# Altium footprint library Connector_FFC-FPC.PcbLib: 372 footprints (part 16 of 24)
Each footprint in its own frame and in the unit in brackets; x right, y up, seen from the top. Pads: shape width x height; smd on the part's side, far side on the other; paste and mask are expansions set on the pad; w line width, h text height; cw(c..) or ccw(c..) is an arc to the next point about the centre after c.
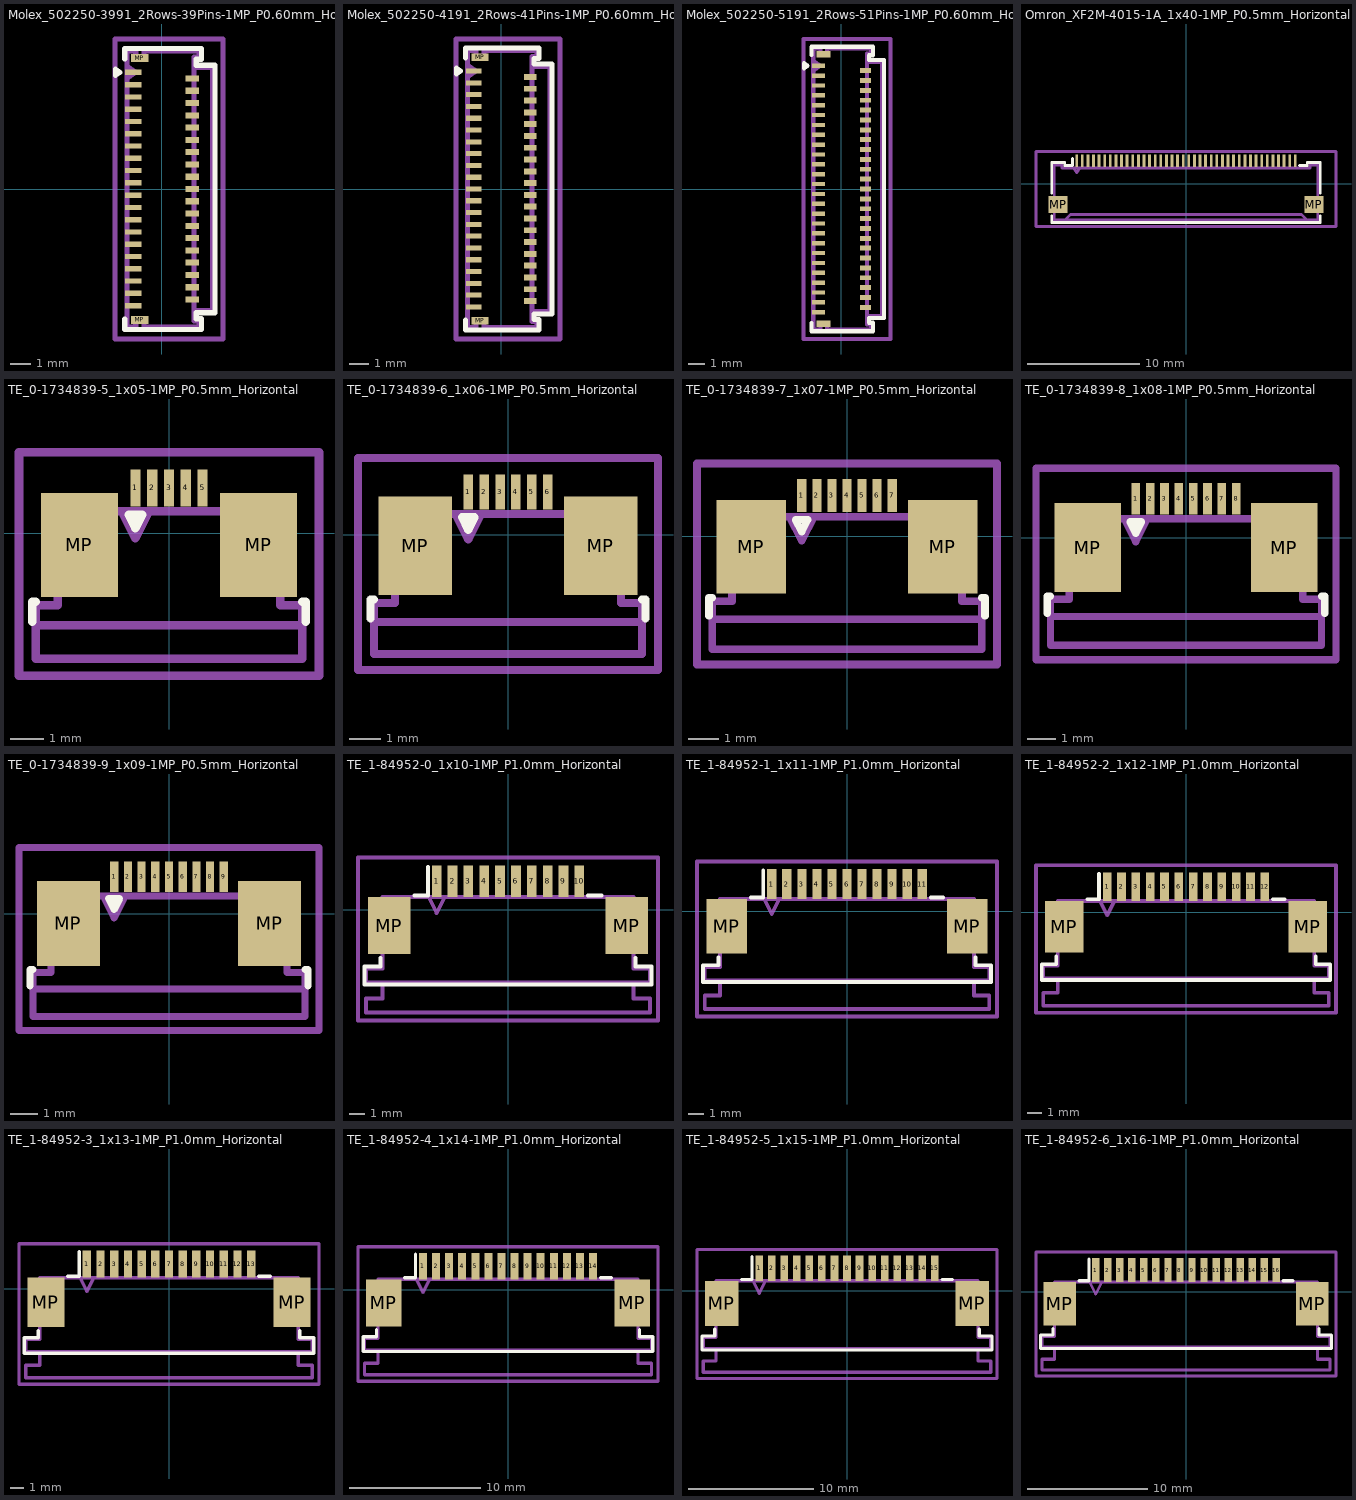
[diagram p15: the footprints below, top view; thin cyan lines are the x and y axes]

## Molex_502250-3991_2Rows-39Pins-1MP_P0.60mm_Horizontal [mm]
pads (41):
  rect 0.8x0.26 smd: 1(-1.4,5.7) 3(-1.4,5.1) 5(-1.4,4.5) 7(-1.4,3.9) 9(-1.4,3.3) 11(-1.4,2.7) 13(-1.4,2.1) 15(-1.4,1.5) 17(-1.4,0.9) 19(-1.4,0.3) 21(-1.4,-0.3) 23(-1.4,-0.9) 25(-1.4,-1.5) 27(-1.4,-2.1) 29(-1.4,-2.7) 31(-1.4,-3.3) 33(-1.4,-3.9) 35(-1.4,-4.5) 37(-1.4,-5.1) 39(-1.4,-5.7)
  rect 0.65x0.3 smd: 2(1.475,5.4) 4(1.475,4.8) 6(1.475,4.2) 8(1.475,3.6) 10(1.475,3) 12(1.475,2.4) 14(1.475,1.8) 16(1.475,1.2) 18(1.475,0.6) 20(1.475,0) 22(1.475,-0.6) 24(1.475,-1.2) 26(1.475,-1.8) 28(1.475,-2.4) 30(1.475,-3) 32(1.475,-3.6) 34(1.475,-4.2) 36(1.475,-4.8) 38(1.475,-5.4)
  rect 0.85x0.4 smd: MP(-1.075,-6.4) MP(-1.075,6.4)
F.SilkS:
  lines w0.254: -1.82,-6.36 -1.82,-6.86 1.93,-6.86 1.93,-6.34 1.68,-6.34 1.68,-6.05 2.59,-6.05 2.59,0 2.59,6.05 1.68,6.05 1.68,6.34 1.93,6.34 1.93,6.86 -1.82,6.86 -1.82,6.36 ; -2.272,5.55 -2.06,5.7 -2.272,5.85 -2.272,5.55
Top Assembly:
  lines w0.254: -1.71,5.4 -1.286,5.7 -1.71,6 ; 1.57,-5.94 2.48,-5.94 2.48,5.94 1.57,5.94 ; -1.71,-6.75 -1.275,-6.75 -1.275,-6.45 -0.875,-6.45 -0.875,-6.75 1.82,-6.75 1.82,-6.45 1.57,-6.45 1.57,0 1.57,6.45 1.82,6.45 1.82,6.75 -0.875,6.75 -0.875,6.45 -1.275,6.45 -1.275,6.75 -1.71,6.75 -1.71,0 -1.71,-6.75
  text "'.Designator'" at 1.646,-3.315 h0.82
Top Courtyard:
  lines w0.254: -2.3,-7.33 2.99,-7.33 2.99,7.33 -2.3,7.33 -2.3,-7.33
Top Designator:
  text ".Designator" at -7.273,-0.508 h1.52

## Molex_502250-4191_2Rows-41Pins-1MP_P0.60mm_Horizontal [mm]
pads (43):
  rect 0.8x0.26 smd: 1(-1.4,6) 3(-1.4,5.4) 5(-1.4,4.8) 7(-1.4,4.2) 9(-1.4,3.6) 11(-1.4,3) 13(-1.4,2.4) 15(-1.4,1.8) 17(-1.4,1.2) 19(-1.4,0.6) 21(-1.4,0) 23(-1.4,-0.6) 25(-1.4,-1.2) 27(-1.4,-1.8) 29(-1.4,-2.4) 31(-1.4,-3) 33(-1.4,-3.6) 35(-1.4,-4.2) 37(-1.4,-4.8) 39(-1.4,-5.4) 41(-1.4,-6)
  rect 0.65x0.3 smd: 2(1.475,5.7) 4(1.475,5.1) 6(1.475,4.5) 8(1.475,3.9) 10(1.475,3.3) 12(1.475,2.7) 14(1.475,2.1) 16(1.475,1.5) 18(1.475,0.9) 20(1.475,0.3) 22(1.475,-0.3) 24(1.475,-0.9) 26(1.475,-1.5) 28(1.475,-2.1) 30(1.475,-2.7) 32(1.475,-3.3) 34(1.475,-3.9) 36(1.475,-4.5) 38(1.475,-5.1) 40(1.475,-5.7)
  rect 0.85x0.4 smd: MP(-1.075,-6.7) MP(-1.075,6.7)
F.SilkS:
  lines w0.254: -1.82,-6.66 -1.82,-7.16 1.93,-7.16 1.93,-6.64 1.68,-6.64 1.68,-6.35 2.59,-6.35 2.59,0 2.59,6.35 1.68,6.35 1.68,6.64 1.93,6.64 1.93,7.16 -1.82,7.16 -1.82,6.66 ; -2.272,5.85 -2.06,6 -2.272,6.15 -2.272,5.85
Top Assembly:
  lines w0.254: -1.71,5.7 -1.286,6 -1.71,6.3 ; 1.57,-6.24 2.48,-6.24 2.48,6.24 1.57,6.24 ; -1.71,-7.05 -1.275,-7.05 -1.275,-6.75 -0.875,-6.75 -0.875,-7.05 1.82,-7.05 1.82,-6.75 1.57,-6.75 1.57,0 1.57,6.75 1.82,6.75 1.82,7.05 -0.875,7.05 -0.875,6.75 -1.275,6.75 -1.275,7.05 -1.71,7.05 -1.71,0 -1.71,-7.05
  text "'.Designator'" at 1.646,-3.315 h0.82
Top Courtyard:
  lines w0.254: -2.3,-7.63 2.99,-7.63 2.99,7.63 -2.3,7.63 -2.3,-7.63
Top Designator:
  text ".Designator" at -7.273,-0.508 h1.52

## Molex_502250-5191_2Rows-51Pins-1MP_P0.60mm_Horizontal [mm]
pads (53):
  rect 0.8x0.26 smd: 1(-1.4,7.5) 3(-1.4,6.9) 5(-1.4,6.3) 7(-1.4,5.7) 9(-1.4,5.1) 11(-1.4,4.5) 13(-1.4,3.9) 15(-1.4,3.3) 17(-1.4,2.7) 19(-1.4,2.1) 21(-1.4,1.5) 23(-1.4,0.9) 25(-1.4,0.3) 27(-1.4,-0.3) 29(-1.4,-0.9) 31(-1.4,-1.5) 33(-1.4,-2.1) 35(-1.4,-2.7) 37(-1.4,-3.3) 39(-1.4,-3.9) 41(-1.4,-4.5) 43(-1.4,-5.1) 45(-1.4,-5.7) 47(-1.4,-6.3) 49(-1.4,-6.9) 51(-1.4,-7.5)
  rect 0.65x0.3 smd: 2(1.475,7.2) 4(1.475,6.6) 6(1.475,6) 8(1.475,5.4) 10(1.475,4.8) 12(1.475,4.2) 14(1.475,3.6) 16(1.475,3) 18(1.475,2.4) 20(1.475,1.8) 22(1.475,1.2) 24(1.475,0.6) 26(1.475,0) 28(1.475,-0.6) 30(1.475,-1.2) 32(1.475,-1.8) 34(1.475,-2.4) 36(1.475,-3) 38(1.475,-3.6) 40(1.475,-4.2) 42(1.475,-4.8) 44(1.475,-5.4) 46(1.475,-6) 48(1.475,-6.6) 50(1.475,-7.2)
  rect 0.85x0.4 smd: MP(-1.075,-8.2) MP(-1.075,8.2)
F.SilkS:
  lines w0.254: -1.82,-8.16 -1.82,-8.66 1.93,-8.66 1.93,-8.14 1.68,-8.14 1.68,-7.85 2.59,-7.85 2.59,0 2.59,7.85 1.68,7.85 1.68,8.14 1.93,8.14 1.93,8.66 -1.82,8.66 -1.82,8.16 ; -2.272,7.35 -2.06,7.5 -2.272,7.65 -2.272,7.35
Top Assembly:
  lines w0.254: -1.71,7.2 -1.286,7.5 -1.71,7.8 ; 1.57,-7.74 2.48,-7.74 2.48,7.74 1.57,7.74 ; -1.71,-8.55 -1.275,-8.55 -1.275,-8.25 -0.875,-8.25 -0.875,-8.55 1.82,-8.55 1.82,-8.25 1.57,-8.25 1.57,0 1.57,8.25 1.82,8.25 1.82,8.55 -0.875,8.55 -0.875,8.25 -1.275,8.25 -1.275,8.55 -1.71,8.55 -1.71,0 -1.71,-8.55
  text "'.Designator'" at 1.646,-3.315 h0.82
Top Courtyard:
  lines w0.254: -2.3,-9.13 2.99,-9.13 2.99,9.13 -2.3,9.13 -2.3,-9.13
Top Designator:
  text ".Designator" at -7.273,-0.508 h1.52

## Omron_XF2M-4015-1A_1x40-1MP_P0.5mm_Horizontal [mm]
pads (42):
  rect 0.25x1.1 smd: 1(-9.75,2.05) 2(-9.25,2.05) 3(-8.75,2.05) 4(-8.25,2.05) 5(-7.75,2.05) 6(-7.25,2.05) 7(-6.75,2.05) 8(-6.25,2.05) 9(-5.75,2.05) 10(-5.25,2.05) 11(-4.75,2.05) 12(-4.25,2.05) 13(-3.75,2.05) 14(-3.25,2.05) 15(-2.75,2.05) 16(-2.25,2.05) 17(-1.75,2.05) 18(-1.25,2.05) 19(-0.75,2.05) 20(-0.25,2.05) 21(0.25,2.05) 22(0.75,2.05) 23(1.25,2.05) 24(1.75,2.05) 25(2.25,2.05) 26(2.75,2.05) 27(3.25,2.05) 28(3.75,2.05) 29(4.25,2.05) 30(4.75,2.05) 31(5.25,2.05) 32(5.75,2.05) 33(6.25,2.05) 34(6.75,2.05) 35(7.25,2.05) 36(7.75,2.05) 37(8.25,2.05) 38(8.75,2.05) 39(9.25,2.05) 40(9.75,2.05)
  rect 1.7x1.5 smd: MP(-11.4,-1.85) MP(11.4,-1.85)
F.SilkS:
  lines w0.254: -11.98,-2.86 -11.98,-3.455 11.98,-3.455 11.98,-2.86 ; -11.98,-0.84 -11.98,1.905 -10.82,1.905 -10.82,1.645 -10.135,1.645 -10.135,2.25 ; 10.135,1.645 10.82,1.645 10.82,1.905 11.98,1.905 11.98,-0.84
Top Assembly:
  lines w0.254: -10.8,-3.225 -10.3,-2.725 10.3,-2.725 10.8,-3.225 ; -10,1.4 -9.75,1 -9.5,1.415 ; -11.75,-3.225 11.75,-3.225 11.75,1.675 11.05,1.675 11.05,1.415 -11.05,1.415 -11.05,1.675 -11.75,1.675 -11.75,-3.225
  text "'.Designator'" at -4.047,-2.84 h1
Top Courtyard:
  lines w0.254: -13.38,-3.8 13.38,-3.8 13.38,2.88 -13.38,2.88 -13.38,-3.8
Top Designator:
  text ".Designator" at -7.618,-0.968 h1.52

## TE_0-1734839-5_1x05-1MP_P0.5mm_Horizontal [mm]
pads (7):
  rect 0.3x1.1 smd: 1(-1,1.35) 2(-0.5,1.35) 3(0,1.35) 4(0.5,1.35) 5(1,1.35)
  rect 2.3x3.1 smd: MP(-2.67,-0.35) MP(2.67,-0.35)
F.SilkS:
  lines w0.254: -4.075,-2.64 -4.075,-2.04 -3.965,-2.04 ; 3.965,-2.04 4.075,-2.04 4.075,-2.64 ; -1.2,0.55 -0.8,0.55 -1,0.15 -1.2,0.55
Top Assembly:
  lines w0.254: -1.4,0.65 -1,-0.15 -0.6,0.65 ; -3.965,-3.75 3.965,-3.75 3.965,-2.15 3.31,-2.15 3.31,0.65 -3.31,0.65 -3.31,-2.15 -3.965,-2.15 -3.965,-3.75
  text "'.Designator'" at -4.047,-2.39 h1
Top Courtyard:
  lines w0.254: -4.47,-4.25 4.47,-4.25 4.47,2.41 -4.47,2.41 -4.47,-4.25
Top Designator:
  text ".Designator" at -7.618,-1.428 h1.52
Dwgs.User:
  lines w0.254: -3.855,-2.75 3.855,-2.75
  text "PCB Edge" at -1.728,-3.663 h0.5

## TE_0-1734839-6_1x06-1MP_P0.5mm_Horizontal [mm]
pads (8):
  rect 0.3x1.1 smd: 1(-1.25,1.35) 2(-0.75,1.35) 3(-0.25,1.35) 4(0.25,1.35) 5(0.75,1.35) 6(1.25,1.35)
  rect 2.3x3.1 smd: MP(-2.92,-0.35) MP(2.92,-0.35)
F.SilkS:
  lines w0.254: -4.325,-2.64 -4.325,-2.04 -4.215,-2.04 ; 4.215,-2.04 4.325,-2.04 4.325,-2.64 ; -1.45,0.55 -1.05,0.55 -1.25,0.15 -1.45,0.55
Top Assembly:
  lines w0.254: -1.65,0.65 -1.25,-0.15 -0.85,0.65 ; -4.215,-3.75 4.215,-3.75 4.215,-2.15 3.56,-2.15 3.56,0.65 -3.56,0.65 -3.56,-2.15 -4.215,-2.15 -4.215,-3.75
  text "'.Designator'" at -4.047,-2.39 h1
Top Courtyard:
  lines w0.254: -4.72,-4.25 4.72,-4.25 4.72,2.41 -4.72,2.41 -4.72,-4.25
Top Designator:
  text ".Designator" at -7.618,-1.428 h1.52
Dwgs.User:
  lines w0.254: -4.105,-2.75 4.105,-2.75
  text "PCB Edge" at -1.728,-3.663 h0.5

## TE_0-1734839-7_1x07-1MP_P0.5mm_Horizontal [mm]
pads (9):
  rect 0.3x1.1 smd: 1(-1.5,1.35) 2(-1,1.35) 3(-0.5,1.35) 4(0,1.35) 5(0.5,1.35) 6(1,1.35) 7(1.5,1.35)
  rect 2.3x3.1 smd: MP(-3.17,-0.35) MP(3.17,-0.35)
F.SilkS:
  lines w0.254: -4.575,-2.64 -4.575,-2.04 -4.465,-2.04 ; 4.465,-2.04 4.575,-2.04 4.575,-2.64 ; -1.7,0.55 -1.3,0.55 -1.5,0.15 -1.7,0.55
Top Assembly:
  lines w0.254: -1.9,0.65 -1.5,-0.15 -1.1,0.65 ; -4.465,-3.75 4.465,-3.75 4.465,-2.15 3.81,-2.15 3.81,0.65 -3.81,0.65 -3.81,-2.15 -4.465,-2.15 -4.465,-3.75
  text "'.Designator'" at -4.047,-2.39 h1
Top Courtyard:
  lines w0.254: -4.97,-4.25 4.97,-4.25 4.97,2.41 -4.97,2.41 -4.97,-4.25
Top Designator:
  text ".Designator" at -7.618,-1.428 h1.52
Dwgs.User:
  lines w0.254: -4.355,-2.75 4.355,-2.75
  text "PCB Edge" at -1.728,-3.663 h0.5

## TE_0-1734839-8_1x08-1MP_P0.5mm_Horizontal [mm]
pads (10):
  rect 0.3x1.1 smd: 1(-1.75,1.35) 2(-1.25,1.35) 3(-0.75,1.35) 4(-0.25,1.35) 5(0.25,1.35) 6(0.75,1.35) 7(1.25,1.35) 8(1.75,1.35)
  rect 2.3x3.1 smd: MP(-3.42,-0.35) MP(3.42,-0.35)
F.SilkS:
  lines w0.254: -4.825,-2.64 -4.825,-2.04 -4.715,-2.04 ; 4.715,-2.04 4.825,-2.04 4.825,-2.64 ; -1.95,0.55 -1.55,0.55 -1.75,0.15 -1.95,0.55
Top Assembly:
  lines w0.254: -2.15,0.65 -1.75,-0.15 -1.35,0.65 ; -4.715,-3.75 4.715,-3.75 4.715,-2.15 4.06,-2.15 4.06,0.65 -4.06,0.65 -4.06,-2.15 -4.715,-2.15 -4.715,-3.75
  text "'.Designator'" at -4.047,-2.39 h1
Top Courtyard:
  lines w0.254: -5.22,-4.25 5.22,-4.25 5.22,2.41 -5.22,2.41 -5.22,-4.25
Top Designator:
  text ".Designator" at -7.618,-1.428 h1.52
Dwgs.User:
  lines w0.254: -4.605,-2.75 4.605,-2.75
  text "PCB Edge" at -1.728,-3.663 h0.5

## TE_0-1734839-9_1x09-1MP_P0.5mm_Horizontal [mm]
pads (11):
  rect 0.3x1.1 smd: 1(-2,1.35) 2(-1.5,1.35) 3(-1,1.35) 4(-0.5,1.35) 5(0,1.35) 6(0.5,1.35) 7(1,1.35) 8(1.5,1.35) 9(2,1.35)
  rect 2.3x3.1 smd: MP(-3.67,-0.35) MP(3.67,-0.35)
F.SilkS:
  lines w0.254: -5.075,-2.64 -5.075,-2.04 -4.965,-2.04 ; 4.965,-2.04 5.075,-2.04 5.075,-2.64 ; -2.2,0.55 -1.8,0.55 -2,0.15 -2.2,0.55
Top Assembly:
  lines w0.254: -2.4,0.65 -2,-0.15 -1.6,0.65 ; -4.965,-3.75 4.965,-3.75 4.965,-2.15 4.31,-2.15 4.31,0.65 -4.31,0.65 -4.31,-2.15 -4.965,-2.15 -4.965,-3.75
  text "'.Designator'" at -4.047,-2.39 h1
Top Courtyard:
  lines w0.254: -5.47,-4.25 5.47,-4.25 5.47,2.41 -5.47,2.41 -5.47,-4.25
Top Designator:
  text ".Designator" at -7.618,-1.428 h1.52
Dwgs.User:
  lines w0.254: -4.855,-2.75 4.855,-2.75
  text "PCB Edge" at -1.728,-3.663 h0.5

## TE_1-84952-0_1x10-1MP_P1.0mm_Horizontal [mm]
pads (12):
  rect 0.61x2 smd: 1(-4.5,1.8) 2(-3.5,1.8) 3(-2.5,1.8) 4(-1.5,1.8) 5(-0.5,1.8) 6(0.5,1.8) 7(1.5,1.8) 8(2.5,1.8) 9(3.5,1.8) 10(4.5,1.8)
  rect 2.68x3.6 smd: MP(-7.49,-1) MP(7.49,-1)
F.SilkS:
  lines w0.254: -8.045,-3.06 -8.045,-3.6 -9.07,-3.6 -9.07,-4.71 9.07,-4.71 9.07,-3.6 8.045,-3.6 8.045,-3.06 ; -5.89,0.91 -5.065,0.91 -5.065,2.71 ; 5.065,0.91 5.89,0.91
Top Assembly:
  lines w0.254: -7.935,-4.6 -7.935,-5.61 -8.96,-5.61 -8.96,-6.5 8.96,-6.5 8.96,-5.61 7.935,-5.61 7.935,-4.6 ; -5,0.8 -4.5,-0.2 -4,0.8 ; -8.96,-4.6 8.96,-4.6 8.96,-3.71 7.935,-3.71 7.935,0.8 -7.935,0.8 -7.935,-3.71 -8.96,-3.71 -8.96,-4.6
  text "'.Designator'" at -4.047,-2.74 h1
Top Courtyard:
  lines w0.254: -9.47,-7 9.47,-7 9.47,3.3 -9.47,3.3 -9.47,-7
Top Designator:
  text ".Designator" at -7.618,-2.358 h1.52

## TE_1-84952-1_1x11-1MP_P1.0mm_Horizontal [mm]
pads (13):
  rect 0.61x2 smd: 1(-5,1.8) 2(-4,1.8) 3(-3,1.8) 4(-2,1.8) 5(-1,1.8) 6(0,1.8) 7(1,1.8) 8(2,1.8) 9(3,1.8) 10(4,1.8) 11(5,1.8)
  rect 2.68x3.6 smd: MP(-7.99,-1) MP(7.99,-1)
F.SilkS:
  lines w0.254: -8.545,-3.06 -8.545,-3.6 -9.57,-3.6 -9.57,-4.71 9.57,-4.71 9.57,-3.6 8.545,-3.6 8.545,-3.06 ; -6.39,0.91 -5.565,0.91 -5.565,2.71 ; 5.565,0.91 6.39,0.91
Top Assembly:
  lines w0.254: -8.435,-4.6 -8.435,-5.61 -9.46,-5.61 -9.46,-6.5 9.46,-6.5 9.46,-5.61 8.435,-5.61 8.435,-4.6 ; -5.5,0.8 -5,-0.2 -4.5,0.8 ; -9.46,-4.6 9.46,-4.6 9.46,-3.71 8.435,-3.71 8.435,0.8 -8.435,0.8 -8.435,-3.71 -9.46,-3.71 -9.46,-4.6
  text "'.Designator'" at -4.047,-2.74 h1
Top Courtyard:
  lines w0.254: -9.97,-7 9.97,-7 9.97,3.3 -9.97,3.3 -9.97,-7
Top Designator:
  text ".Designator" at -7.618,-2.358 h1.52

## TE_1-84952-2_1x12-1MP_P1.0mm_Horizontal [mm]
pads (14):
  rect 0.61x2 smd: 1(-5.5,1.8) 2(-4.5,1.8) 3(-3.5,1.8) 4(-2.5,1.8) 5(-1.5,1.8) 6(-0.5,1.8) 7(0.5,1.8) 8(1.5,1.8) 9(2.5,1.8) 10(3.5,1.8) 11(4.5,1.8) 12(5.5,1.8)
  rect 2.68x3.6 smd: MP(-8.49,-1) MP(8.49,-1)
F.SilkS:
  lines w0.254: -9.045,-3.06 -9.045,-3.6 -10.07,-3.6 -10.07,-4.71 10.07,-4.71 10.07,-3.6 9.045,-3.6 9.045,-3.06 ; -6.89,0.91 -6.065,0.91 -6.065,2.71 ; 6.065,0.91 6.89,0.91
Top Assembly:
  lines w0.254: -8.935,-4.6 -8.935,-5.61 -9.96,-5.61 -9.96,-6.5 9.96,-6.5 9.96,-5.61 8.935,-5.61 8.935,-4.6 ; -6,0.8 -5.5,-0.2 -5,0.8 ; -9.96,-4.6 9.96,-4.6 9.96,-3.71 8.935,-3.71 8.935,0.8 -8.935,0.8 -8.935,-3.71 -9.96,-3.71 -9.96,-4.6
  text "'.Designator'" at -4.047,-2.74 h1
Top Courtyard:
  lines w0.254: -10.46,-7 10.46,-7 10.46,3.3 -10.46,3.3 -10.46,-7
Top Designator:
  text ".Designator" at -7.618,-2.358 h1.52

## TE_1-84952-3_1x13-1MP_P1.0mm_Horizontal [mm]
pads (15):
  rect 0.61x2 smd: 1(-6,1.8) 2(-5,1.8) 3(-4,1.8) 4(-3,1.8) 5(-2,1.8) 6(-1,1.8) 7(0,1.8) 8(1,1.8) 9(2,1.8) 10(3,1.8) 11(4,1.8) 12(5,1.8) 13(6,1.8)
  rect 2.68x3.6 smd: MP(-8.99,-1) MP(8.99,-1)
F.SilkS:
  lines w0.254: -9.545,-3.06 -9.545,-3.6 -10.57,-3.6 -10.57,-4.71 10.57,-4.71 10.57,-3.6 9.545,-3.6 9.545,-3.06 ; -7.39,0.91 -6.565,0.91 -6.565,2.71 ; 6.565,0.91 7.39,0.91
Top Assembly:
  lines w0.254: -9.435,-4.6 -9.435,-5.61 -10.46,-5.61 -10.46,-6.5 10.46,-6.5 10.46,-5.61 9.435,-5.61 9.435,-4.6 ; -6.5,0.8 -6,-0.2 -5.5,0.8 ; -10.46,-4.6 10.46,-4.6 10.46,-3.71 9.435,-3.71 9.435,0.8 -9.435,0.8 -9.435,-3.71 -10.46,-3.71 -10.46,-4.6
  text "'.Designator'" at -4.047,-2.74 h1
Top Courtyard:
  lines w0.254: -10.96,-7 10.96,-7 10.96,3.3 -10.96,3.3 -10.96,-7
Top Designator:
  text ".Designator" at -7.618,-2.358 h1.52

## TE_1-84952-4_1x14-1MP_P1.0mm_Horizontal [mm]
pads (16):
  rect 0.61x2 smd: 1(-6.5,1.8) 2(-5.5,1.8) 3(-4.5,1.8) 4(-3.5,1.8) 5(-2.5,1.8) 6(-1.5,1.8) 7(-0.5,1.8) 8(0.5,1.8) 9(1.5,1.8) 10(2.5,1.8) 11(3.5,1.8) 12(4.5,1.8) 13(5.5,1.8) 14(6.5,1.8)
  rect 2.68x3.6 smd: MP(-9.49,-1) MP(9.49,-1)
F.SilkS:
  lines w0.254: -10.045,-3.06 -10.045,-3.6 -11.07,-3.6 -11.07,-4.71 11.07,-4.71 11.07,-3.6 10.045,-3.6 10.045,-3.06 ; -7.89,0.91 -7.065,0.91 -7.065,2.71 ; 7.065,0.91 7.89,0.91
Top Assembly:
  lines w0.254: -9.935,-4.6 -9.935,-5.61 -10.96,-5.61 -10.96,-6.5 10.96,-6.5 10.96,-5.61 9.935,-5.61 9.935,-4.6 ; -7,0.8 -6.5,-0.2 -6,0.8 ; -10.96,-4.6 10.96,-4.6 10.96,-3.71 9.935,-3.71 9.935,0.8 -9.935,0.8 -9.935,-3.71 -10.96,-3.71 -10.96,-4.6
  text "'.Designator'" at -4.047,-2.74 h1
Top Courtyard:
  lines w0.254: -11.46,-7 11.46,-7 11.46,3.3 -11.46,3.3 -11.46,-7
Top Designator:
  text ".Designator" at -7.618,-2.358 h1.52

## TE_1-84952-5_1x15-1MP_P1.0mm_Horizontal [mm]
pads (17):
  rect 0.61x2 smd: 1(-7,1.8) 2(-6,1.8) 3(-5,1.8) 4(-4,1.8) 5(-3,1.8) 6(-2,1.8) 7(-1,1.8) 8(0,1.8) 9(1,1.8) 10(2,1.8) 11(3,1.8) 12(4,1.8) 13(5,1.8) 14(6,1.8) 15(7,1.8)
  rect 2.68x3.6 smd: MP(-9.99,-1) MP(9.99,-1)
F.SilkS:
  lines w0.254: -10.545,-3.06 -10.545,-3.6 -11.57,-3.6 -11.57,-4.71 11.57,-4.71 11.57,-3.6 10.545,-3.6 10.545,-3.06 ; -8.39,0.91 -7.565,0.91 -7.565,2.71 ; 7.565,0.91 8.39,0.91
Top Assembly:
  lines w0.254: -10.435,-4.6 -10.435,-5.61 -11.46,-5.61 -11.46,-6.5 11.46,-6.5 11.46,-5.61 10.435,-5.61 10.435,-4.6 ; -7.5,0.8 -7,-0.2 -6.5,0.8 ; -11.46,-4.6 11.46,-4.6 11.46,-3.71 10.435,-3.71 10.435,0.8 -10.435,0.8 -10.435,-3.71 -11.46,-3.71 -11.46,-4.6
  text "'.Designator'" at -4.047,-2.74 h1
Top Courtyard:
  lines w0.254: -11.96,-7 11.96,-7 11.96,3.3 -11.96,3.3 -11.96,-7
Top Designator:
  text ".Designator" at -7.618,-2.358 h1.52

## TE_1-84952-6_1x16-1MP_P1.0mm_Horizontal [mm]
pads (18):
  rect 0.61x2 smd: 1(-7.5,1.8) 2(-6.5,1.8) 3(-5.5,1.8) 4(-4.5,1.8) 5(-3.5,1.8) 6(-2.5,1.8) 7(-1.5,1.8) 8(-0.5,1.8) 9(0.5,1.8) 10(1.5,1.8) 11(2.5,1.8) 12(3.5,1.8) 13(4.5,1.8) 14(5.5,1.8) 15(6.5,1.8) 16(7.5,1.8)
  rect 2.68x3.6 smd: MP(-10.49,-1) MP(10.49,-1)
F.SilkS:
  lines w0.254: -11.045,-3.06 -11.045,-3.6 -12.07,-3.6 -12.07,-4.71 12.07,-4.71 12.07,-3.6 11.045,-3.6 11.045,-3.06 ; -8.89,0.91 -8.065,0.91 -8.065,2.71 ; 8.065,0.91 8.89,0.91
Top Assembly:
  lines w0.254: -10.935,-4.6 -10.935,-5.61 -11.96,-5.61 -11.96,-6.5 11.96,-6.5 11.96,-5.61 10.935,-5.61 10.935,-4.6 ; -8,0.8 -7.5,-0.2 -7,0.8 ; -11.96,-4.6 11.96,-4.6 11.96,-3.71 10.935,-3.71 10.935,0.8 -10.935,0.8 -10.935,-3.71 -11.96,-3.71 -11.96,-4.6
  text "'.Designator'" at -4.047,-2.74 h1
Top Courtyard:
  lines w0.254: -12.46,-7 12.46,-7 12.46,3.3 -12.46,3.3 -12.46,-7
Top Designator:
  text ".Designator" at -7.618,-2.358 h1.52